# EAGLE library part C3004-SV02X3 (library Connetors_ACTIVE14)
smt 3mm pitch connctor vertical ,5A,250v AWG #20 TO #24
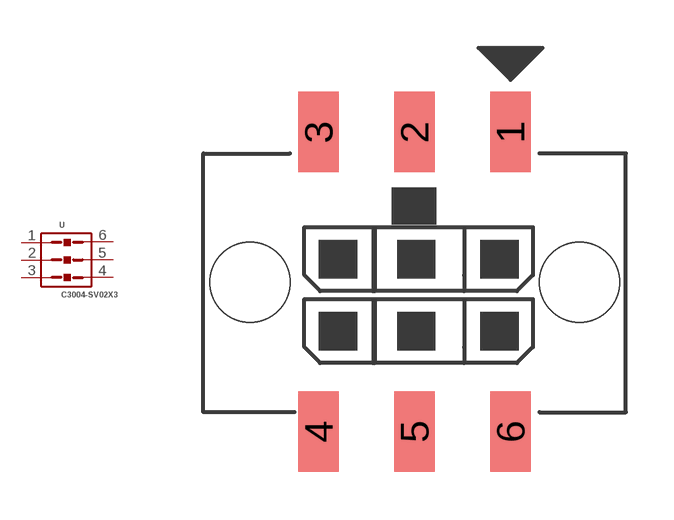
[diagram p3: symbol with the pads of C3004-SV02X3; footprint C3004-SV02X3]

Designator prefix -

## C3004-SV02X3SMT  [C3004-SV02X3]
1  1  pas
2  2  pas
3  3  pas
4  4  pas
5  5  pas
6  6  pas

## Footprint C3004-SV02X3 (pad centres in mm)
smd 1.27 x 2.51: 1 6,9.37; 2 3,9.37; 3 0,9.37; 4 0,0; 5 3,0; 6 6,0
hole 2.5 at -2.15,4.67
hole 2.5 at 8.15,4.67